# Altium footprint library HLib_discrete_fp.PcbLib: 4 footprints
Each footprint in its own frame and in the unit in brackets; x right, y up, seen from the top. Pads: shape width x height; smd on the part's side, far side on the other; paste and mask are expansions set on the pad; w line width, h text height; cw(c..) or ccw(c..) is an arc to the next point about the centre after c.
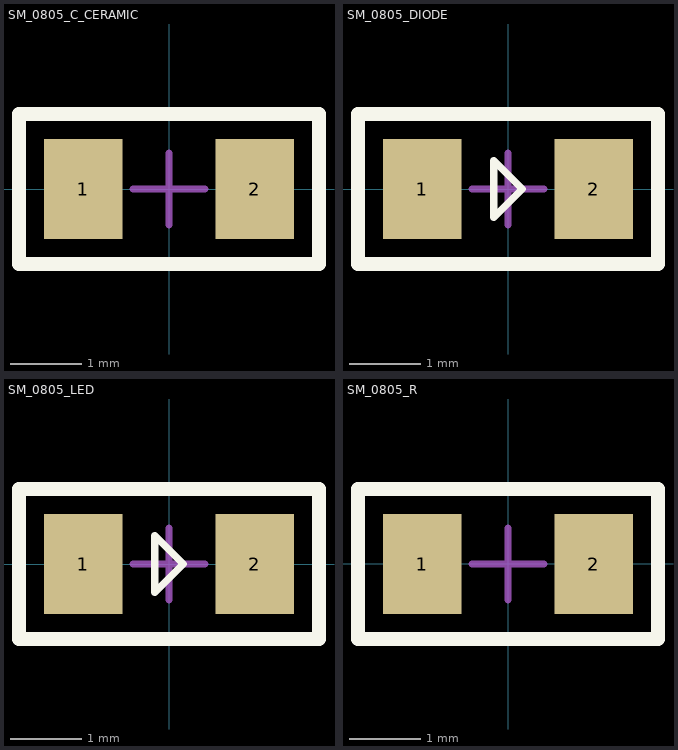
[diagram p0: the footprints below, top view; thin cyan lines are the x and y axes]

## SM_0805_C_CERAMIC [mm] "General Surface-mount cap, low density"
height 0.7
pads (2):
  rect 1.1x1.4 smd: 1(-1.2,0) 2(1.2,0)
Top Overlay:
  lines w0.2: -2.1,-1.05 2.1,-1.05 2.1,1.05 -2.1,1.05 -2.1,-1.05
Mechanical 15:
  lines w0.1: -0.5,0 0.5,0 ; 0,-0.5 0,0.5 ; -2.1,-1.05 -2.1,1.05 2.1,1.05 2.1,-1.05 -2.1,-1.05
3D body: height 0.58, standoff -0.02, extent -1,-0.625 1,0.625

## SM_0805_DIODE [mm] "General polarized surface-mount diode, low density"
height 0.7
pads (2):
  rect 1.1x1.4 smd: 1(-1.2,0) 2(1.2,0)
Top Overlay:
  lines w0.1: -0.2,-0.4 -0.2,0.4 0.2,0 -0.2,-0.4
  lines w0.2: -2.1,-1.05 -2.1,1.05 2.1,1.05 2.1,-1.05 -2.1,-1.05
Mechanical 15:
  lines w0.1: -0.5,0 0.5,0 ; 0,-0.5 0,0.5 ; -2.1,-1.05 2.1,-1.05 2.1,1.05 -2.1,1.05 -2.1,-1.05
3D body: height 0.81, standoff 0, extent -1.262,-0.65 1.238,0.65

## SM_0805_LED [mm] "General polarized surface-mount Led, low density"
height 0.7
pads (2):
  rect 1.1x1.4 smd: 1(-1.2,0) 2(1.2,0)
Top Overlay:
  lines w0.1: -0.2,-0.4 0.2,0 -0.2,0.4 -0.2,-0.4
  lines w0.2: -2.1,-1.05 2.1,-1.05 2.1,1.05 -2.1,1.05 -2.1,-1.05
Mechanical 15:
  lines w0.1: -0.5,0 0.5,0 ; 0,-0.5 0,0.5 ; -2.1,-1.05 -2.1,1.05 2.1,1.05 2.1,-1.05 -2.1,-1.05
3D body: height 1.1, standoff 0, extent -1.01,-0.625 1.01,0.625

## SM_0805_R [mm] "General Surface-mount resistor, low density"
height 0.7
pads (2):
  rect 1.1x1.4 smd: 1(-1.2,0) 2(1.2,0)
Top Overlay:
  lines w0.2: -2.1,-1.05 -2.1,1.05 2.1,1.05 2.1,-1.05 -2.1,-1.05
Mechanical 15:
  lines w0.1: -0.5,0 0.5,0 ; 0,-0.5 0,0.5 ; -2.1,-1.05 2.1,-1.05 2.1,1.05 -2.1,1.05 -2.1,-1.05
3D body: height 0.45, standoff 0, extent -1,-0.629 1,0.621